# Altium footprint library Component_template_SMD.PcbLib: 5 footprints
Each footprint in its own frame and in the unit in brackets; x right, y up, seen from the top. Pads: shape width x height; smd on the part's side, far side on the other; paste and mask are expansions set on the pad; w line width, h text height; cw(c..) or ccw(c..) is an arc to the next point about the centre after c.
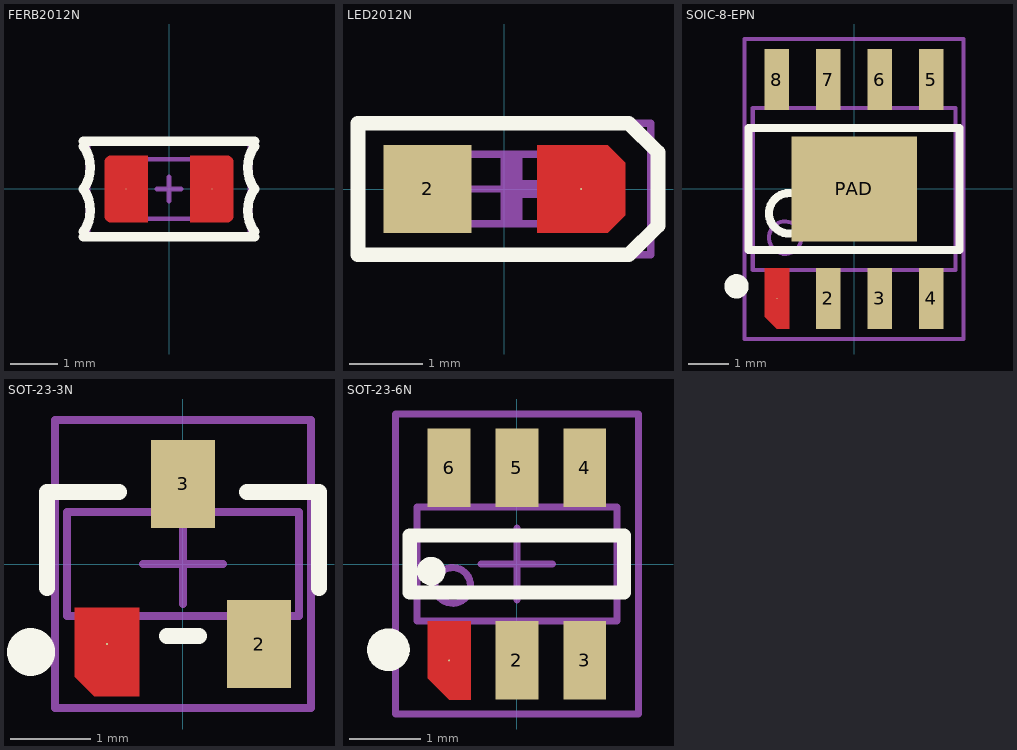
[diagram p0: the footprints below, top view; thin cyan lines are the x and y axes]

## FERB2012N [mil]
height 41.34
pads (2):
  round 1 smd: 1(-35.43,0) 2(35.43,0)
Top Layer:
  region: 47.83,-27.56 17.72,-27.56 17.72,27.56 47.83,27.56 48.36,27.56 49.38,27.35 50.35,26.95 51.22,26.37 51.96,25.63 52.54,24.76 52.95,23.79 53.15,22.77 53.15,22.24 53.15,-22.24 53.15,-22.77 52.95,-23.79 52.54,-24.76 51.96,-25.63 51.22,-26.37 50.35,-26.95 49.38,-27.35 48.36,-27.56
  region: -47.83,27.56 -17.72,27.56 -17.72,-27.56 -47.83,-27.56 -48.36,-27.56 -49.38,-27.35 -50.35,-26.95 -51.22,-26.37 -51.96,-25.63 -52.54,-24.76 -52.95,-23.79 -53.15,-22.77 -53.15,-22.24 -53.15,22.24 -53.15,22.77 -52.95,23.79 -52.54,24.76 -51.96,25.63 -51.22,26.37 -50.35,26.95 -49.38,27.35 -48.36,27.56
Top Overlay:
  lines w7.87: -70.87,-39.37 70.87,-39.37 ; -70.87,-35.43 ccw(c-94.49,-17.72) -70.87,0 ccw(c-94.49,17.72) -70.87,35.43 ; -70.87,39.37 70.87,39.37 ; 70.87,-35.43 cw(c94.49,-17.72) 70.87,0 cw(c94.49,17.72) 70.87,35.43
Top Package:
  lines w3.94: -24.61,-24.61 -24.61,24.61 ; 23.62,-24.61 23.62,24.61 ; -39.37,-24.61 39.37,-24.61 39.37,24.61 -39.37,24.61 -39.37,-24.61
Top Comment:
  text ".Comment" at -83.79,-18.64 h59.06
Top Designator:
  text ".Designator" at -101.6,-13.17 h59.06
Top Border:
  lines w3.94: -9.84,0 9.84,0 ; 0,-9.84 0,9.84 ; -66.93,-39.37 -66.93,39.37 66.93,39.37 66.93,-39.37 -66.93,-39.37
3D body "User Library-User Library-Chip InductorINDC2012X130N.sldprt": height 51.18, standoff 0, extent -39.37,-23.62 39.37,23.62

## LED2012N [mm]
height 0.9
pads (2):
  round 0.025 smd: 1(1.05,0)
  rect 1.2x1.2 smd: 2(-1.05,0)
Top Layer:
  region: 1.65,-0.36 1.41,-0.6 0.45,-0.6 0.45,0.6 1.41,0.6 1.65,0.36
Top Overlay:
  lines w0.2: -2,-0.9 -2,0.9 1.7,0.9 2.1,0.5 2.1,-0.5 1.7,-0.9 -2,-0.9
Top Package:
  region: 0.475,0.125 0.25,0.125 0.25,-0.125 0.475,-0.125
  region: 0.25,0.45 0.05,0.45 0.05,-0.475 0.25,-0.475
  lines w0.1: -0.725,-0.475 -0.725,0.475 ; 0.675,-0.475 0.675,0.475 ; -1.15,-0.475 1.125,-0.475 1.125,0.475 -1.15,0.475 -1.15,-0.475
Top Comment:
  text ".Comment" at -1.703,-0.376 h1.2
Top Designator:
  text ".Designator" at -2.581,-0.335 h1.5
Top Border:
  lines w0.1: -0.475,0 0.475,0 ; 0,-0.475 0,0.475 ; -2,-0.9 2,-0.9 2,0.9 -2,0.9 -2,-0.9
3D body "LED2012.step": height 0.85, standoff 0.01, extent -1.031,-0.456 1.031,0.45

## SOIC-8-EPN [mm]
height 1.1
pads (9):
  round 0.025 smd: 1(-1.905,-2.7)
  rect 0.6x1.5 smd: 2(-0.635,-2.7) 3(0.635,-2.7) 4(1.905,-2.7) 5(1.905,2.7) 6(0.635,2.7) 7(-0.635,2.7) 8(-1.905,2.7)
  rect 3.1x2.6 smd: PAD(0,0)
Top Layer:
  region: -2.205,-1.95 -1.605,-1.95 -1.605,-3.45 -1.905,-3.45 -2.205,-3.15
Top Overlay:
  circle w0.2: c-1.6,-0.6 r0.5
  circle w0.3: c-2.9,-2.4 r0.15
  lines w0.2: -2.6,-1.5 2.6,-1.5 2.6,1.5 -2.6,1.5 -2.6,-1.5
Top Package:
  circle w0.1: c-1.7,-1.2 r0.4
  lines w0.1: -2.5,-2 2.5,-2 2.5,2 -2.5,2 -2.5,-2 ; -2.075,-3 -2.075,-2 -1.75,-2 -1.75,-3 -2.075,-3 ; -2.075,2 -1.75,2 -1.75,3 -2.075,3 -2.075,2 ; -0.804,-2.998 -0.479,-2.998 -0.479,-1.998 -0.804,-1.998 -0.804,-2.998 ; -0.804,1.998 -0.479,1.998 -0.479,2.998 -0.804,2.998 -0.804,1.998 ; 0.479,-2.998 0.479,-1.998 0.804,-1.998 0.804,-2.998 0.479,-2.998 ; 0.479,1.998 0.479,2.998 0.804,2.998 0.804,1.998 0.479,1.998 ; 1.749,-3.002 2.074,-3.002 2.074,-2.002 1.749,-2.002 1.749,-3.002 ; 1.75,2 2.075,2 2.075,3 1.75,3 1.75,2
Top Comment:
  text ".Comment" at -2.128,-0.474 h1.5
Top Designator:
  text ".Designator" at -3.438,-0.451 h2
Top Border:
  lines w0.1: -0.5,0 0.5,0 ; 0,-0.5 0,0.5 ; -2.7,-3.7 2.7,-3.7 2.7,3.7 -2.7,3.7 -2.7,-3.7
3D body "User Library-SOIC-8-1.step": height 1.75, standoff 0, extent -2.451,-3.002 2.449,2.998

## SOT-23-3N [mm]
height 1.2
pads (3):
  round 0.025 smd: 1(-0.95,-1)
  rect 0.8x1.1 smd: 2(0.95,-1) 3(0,1)
Top Layer:
  region: -1.35,-0.55 -0.55,-0.55 -0.55,-1.65 -1.11,-1.65 -1.35,-1.41
Top Overlay:
  circle w0.3: c-1.9,-1.1 r0.15
  lines w0.2: -1.7,-0.3 -1.7,0.9 -0.8,0.9 ; -0.2,-0.9 0.2,-0.9 ; 0.8,0.9 1.7,0.9 1.7,-0.3
Top Package:
  lines w0.1: -1.175,-0.95 -0.725,-0.95 ; -1.175,-0.675 -1.175,-1.25 -0.725,-1.25 -0.725,-0.675 ; -0.225,0.65 -0.225,1.225 0.225,1.225 0.225,0.65 ; -0.225,0.925 0.225,0.925 ; 0.725,-0.95 1.175,-0.95 ; 0.725,-0.65 0.725,-1.225 1.175,-1.225 1.175,-0.65 ; -1.45,-0.65 -1.45,0.65 1.45,0.65 1.45,-0.65 -1.45,-0.65
Top Comment:
  text ".Comment" at -1.703,-0.406 h1.2
Top Designator:
  text ".Designator" at -2.581,-0.365 h1.5
Top Border:
  lines w0.1: -1.6,-1.8 1.6,-1.8 1.6,1.8 -1.6,1.8 -1.6,-1.8 ; -0.5,0 0.5,0 -0.5,0 ; 0,-0.5 0,0.5 0,-0.5
3D body "SOT23-3.step": height 1.3, standoff 0, extent -1.45,-1.4 1.45,1.4

## SOT-23-6N [mm]
height 1.7
pads (6):
  round 0.025 smd: 1(-0.95,-1.35)
  rect 0.6x1.1 smd: 2(0,-1.35) 3(0.95,-1.35) 4(0.95,1.35) 5(0,1.35) 6(-0.95,1.35)
Top Layer:
  region: -1.25,-0.8 -0.65,-0.8 -0.65,-1.9 -0.95,-1.9 -1.25,-1.6
Top Overlay:
  circle w0.2: c-1.2,-0.1 r0.1
  circle w0.3: c-1.8,-1.2 r0.15
  lines w0.2: -1.5,-0.4 1.5,-0.4 1.5,0.4 -1.5,0.4 -1.5,-0.4
Top Package:
  circle w0.1: c-0.9,-0.3 r0.25
  lines w0.1: -1.15,-0.8 -1.15,-1.4 -0.75,-1.4 -0.75,-0.8 ; -1.15,0.8 -1.15,1.4 -0.75,1.4 -0.75,0.8 ; -0.2,-0.8 -0.2,-1.4 0.2,-1.4 0.2,-0.8 ; -0.2,0.8 -0.2,1.4 0.2,1.4 0.2,0.8 ; 0.75,-0.8 0.75,-1.4 1.15,-1.4 1.15,-0.8 ; 0.75,0.8 0.75,1.4 1.15,1.4 1.15,0.8 ; -1.4,-0.8 -1.4,0.8 1.4,0.8 1.4,-0.8 -1.4,-0.8
Top Comment:
  text ".Comment" at -1.703,-0.376 h1.2
Top Designator:
  text ".Designator" at -2.581,-0.335 h1.5
Top Border:
  lines w0.1: -0.5,0 0.5,0 ; 0,-0.5 0,0.5 ; -1.7,-2.1 1.7,-2.1 1.7,2.1 -1.7,2.1 -1.7,-2.1
3D body "SOT-23-6.step": height 1.45, standoff 0, extent -1.45,-1.4 1.45,1.4